# EAGLE library part IS-2245S-G (library FaBo-Switch)
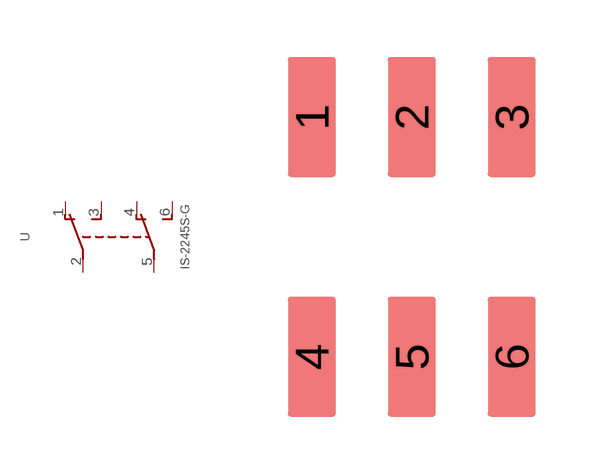
[diagram p7: symbol with the pads of IS-2245S-G; footprint IS-2245S-G]

Designator prefix -

## IS-2245S-G  [IS-2245S-G]
1  1  pas
2  2  pas
3  3  pas
4  4  pas
5  5  pas
6  6  pas

## Footprint IS-2245S-G (pad centres in mm)
smd 1.2 x 3: 1 -2.5,3; 2 0,3; 3 2.5,3; 4 -2.5,-3; 5 0,-3; 6 2.5,-3